# Altium schematic symbol library Trap_PCB_V3.3.SCHLIB: 18 symbols
Pins are listed as number, name and electrical type; pins without a type are passive.

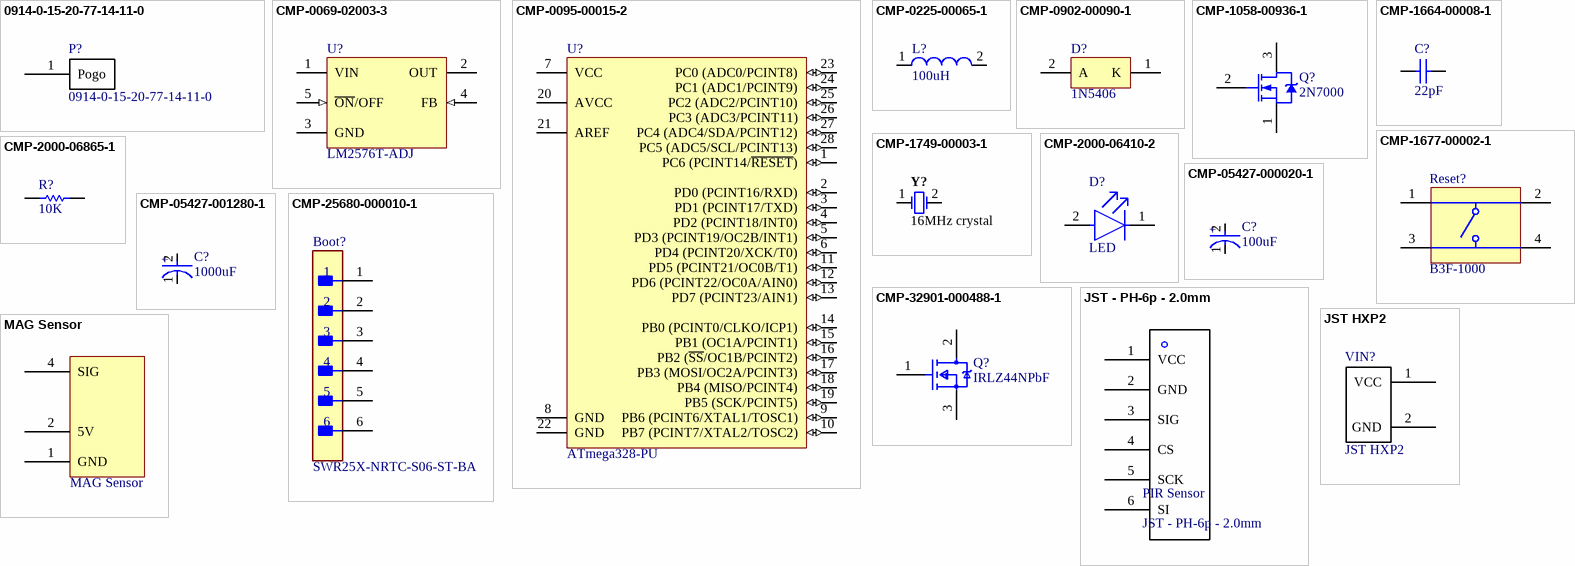
[diagram p0: symbols 0914-0-15-20-77-14-11-0 to MAG Sensor]

## 0914-0-15-20-77-14-11-0
designator P?
CONTACT SPRING LOADED T/H GOLD
footprint 0914-0-15-20-77-14-11-0 (Footprint not found)
pins: 1 Pogo

## CMP-0069-02003-3
designator U?, comment LM2576T-ADJ
SIMPLE SWITCHER® 3A Step-Down Voltage Regulator, 5-pin TO-220; Manufacturer: Texas Instruments; Manufacturer: TI National Semiconductor; Manufacturer Part Number: LM2576TADJ; PowerWise: N; PackageTopMarking: NSUZXYTTE#*LM2576T*-ADJ P+; PinCount: 5; RoHS: N; CompType: Switcher; Code_JEDEC: TO-220-AB; ComponentLink1URL: http://www.ti.com/general/docs/lit/getliterature.tsp?genericPartNumber=LM2576&fileType=pdf; PackageDescription: TO-220, Molded, 5 Lead, Straight; ComponentLink1Description: Datasheet URL; PackageReference: KC0005A
footprint KC0005A (FM, 5-Leads, Body 10.16x8.46mm, Pitch 1.7mm)
pins: 1 VIN (power), 2 OUT (power), 3 GND (power), 4 FB (in), 5 ~{ON}/OFF (in)

## CMP-0095-00015-2
designator U?, comment ATmega328-PU
8-bit AVR Microcontroller, 32KB Flash, 1KB EEPROM, 2KB SRAM, 28-pin PDIP, Industrial Grade (-40°C to 85°C); Manufacturer: Microchip; ComponentLink3Description: ATmega48A/48PA/88A/88PA/168A/168PA/328/328P Summary; RevisionNote: DatasheetVersion updated. URLs added.; DatasheetVersion: revD, May-2011; ComponentLink1URL: http://www.atmel.com/; PackageVersion: revB, Sep-2001; PackageDescription: 28-lead (0.300"/7.62mm Wide) Plastic Dual Inline Package (PDIP); PackageReference: 28P3; ComponentLink1Description: Manufacturer URL; ComponentLink2Description: ATmega48A/48PA/88A/88PA/168A/168PA/328/328P Datasheet; ComponentLink3URL: http://www.atmel.com/dyn/resources/prod_documents/8271S.pdf; ComponentLink2URL: http://www.atmel.com/dyn/resources/prod_documents/8271.pdf; Manufacturer Part Number: ATMEGA328-PU
footprint 28P3 (DIP, 28-Leads, Row Spacing 7.62mm, Pitch 2.54mm, Body 34.67x7.3mm)
pins: 1 PC6 (PCINT14/~{RESET}) (io), 2 PD0 (PCINT16/RXD) (io), 3 PD1 (PCINT17/TXD) (io), 4 PD2 (PCINT18/INT0) (io), 5 PD3 (PCINT19/OC2B/INT1) (io), 6 PD4 (PCINT20/XCK/T0) (io), 7 VCC (power), 8 GND (power), 9 PB6 (PCINT6/XTAL1/TOSC1) (io), 10 PB7 (PCINT7/XTAL2/TOSC2) (io), 11 PD5 (PCINT21/OC0B/T1) (io), 12 PD6 (PCINT22/OC0A/AIN0) (io), 13 PD7 (PCINT23/AIN1) (io), 14 PB0 (PCINT0/CLKO/ICP1) (io), 15 PB1 (OC1A/PCINT1) (io), 16 PB2 (~{SS}/OC1B/PCINT2) (io), 17 PB3 (MOSI/OC2A/PCINT3) (io), 18 PB4 (MISO/PCINT4) (io), 19 PB5 (SCK/PCINT5) (io), 20 AVCC (power), 21 AREF (power), 22 GND (power), 23 PC0 (ADC0/PCINT8) (io), 24 PC1 (ADC1/PCINT9) (io), 25 PC2 (ADC2/PCINT10) (io), 26 PC3 (ADC3/PCINT11) (io), 27 PC4 (ADC4/SDA/PCINT12) (io), 28 PC5 (ADC5/SCL/PCINT13) (io)

## CMP-0225-00065-1
designator L?, comment 100uH
Radial Leaded Wire Wound Inductor WE-TI, L = 100 µH; Manufacturer: Wurth Electronics; Manufacturer Part Number: 744743101; Inductance: 100 ÂµH; ComponentLink2URL: http://www.we-online.de/katalog/media/pdf/744743101.pdf; ComponentLink2Description: Datasheet; PackageReference: WE-TI-LB; ComponentLink1Description: Manufacturer Link; PackageDescription: THT Inductor, 2-Leads, Body 8.0 x 8.0 mm; PackageVersion: 2004; ComponentLink1URL: http://www.we-online.com; DatasheetVersion: ver 3, Nov-2004
footprint WE-TI-LB (THT Inductor, 2-Leads, Body 8.0x8.0x12.5 mm)
pins: 1, 2

## CMP-0902-00090-1
designator D?, comment 1N5406
Standard Recovery Rectifier, 2-Pin Axial_Lead, Pb-Free, Bulk Box; Manufacturer: On Semiconductor; Manufacturer: ON Semiconductor / Fairchild; IFSM Max (A): 200; IO(rec) Max (A): 3; VRRM Max (V): 600; PackageDescription: 2-Pin, Axial Lead, Diameter 5.05 mm; ComponentLink1Description: Manufacturer URL; ComponentLink3URL: http://www.onsemi.com/pub_link/Collateral/267-05.PDF; ComponentLink1URL: http://www.onsemi.com/; Mounting Technology: Through Hole; Type: Standard Recovery; DatasheetVersion: Rev. 10; ComponentLink3Description: Package Specification; Packing: Bulk Box; PackageReference: AXIAL_LEAD-2-267-05; PartNumber: 1N5406; ComponentLink2URL: http://www.onsemi.com/pub_link/Collateral/1N5400-D.PDF; PackageVersion: Rev. G, 06/2000; RoHS: TRUE; ComponentLink2Description: Datasheet; Manufacturer Part Number: 1N5406
footprint ONSC-AXIAL_LEAD-2-267-05_V (AXIAL, 2-Leads, Diameter 5.05mm)
pins: 1 K, 2 A

## CMP-1058-00936-1
designator Q?, comment 2N7000
Small Signal MOSFET, 200 mA, 60 V, N-Channel, 3-Pin TO-92, Bulk Box; Manufacturer: On Semiconductor; Manufacturer: ON Semiconductor / Fairchild; Ciss Typ (pF): 60; VGS(th) Max (V): 3; Crss Typ (pF): 5; Channel Polarity: N Channel; VGS Max (V): 20; Configuration: Single; PD Max (W): 0.35; Coss Typ (pF): 25; ID Max (A): 0.2; PackageVersion: Rev. AM; ComponentLink3URL: http://www.onsemi.cn/pub_link/Collateral/2N6426-D.PDF; ComponentLink2URL: http://www.onsemi.com/pub_link/Collateral/2N7000-D.PDF; DatasheetVersion: Rev. 8; Mounting Technology: Through Hole; V(BR)DSS Min (V): 60; PartNumber: 2N7000; PackageDescription: 3-Pin Transistor Outline, Body 4.825 x 3.685 mm, Pitch 1.27 mm; ComponentLink2Description: Datasheet; ComponentLink1URL: http://www.onsemi.com/; PackageReference: TO-92-3-29-11_AM_SL; Packing: Bulk Box; ComponentLink1Description: Manufacturer URL; Package Type: TO-92; ComponentLink3Description: Package Specification; Manufacturer Part Number: 2N7000
footprint ONSC-TO-92-3-29-11 (TO, 3-Leads, Body Dia 4.7mm, Pitch 1.27mm)
pins: 1 S, 2 G, 3 D

## CMP-1664-00008-1
designator C?, comment 22pF
Capacitor, Ceramic, 22 pF, +/-10 %, 100 V, -55 to 125 degC, 2-Pin THD, RoHS, Bulk; Manufacturer: KEMET; Manufacturer Part Number: C315C220K1G5TA; Max Input Voltage: 40 V; Min Input Voltage: 4.2 V; Output Current: 1.5 A; Output Voltage: 1.2 V; Outputs: 1; Case\Package: TO-220; RoHSCompliant: true; Min Operating Temperature: 0 degC; Max Operating Temperature: 125 degC; Package Quantity: 50; ComponentLink2URL: http://capacitoredge.kemet.com/capedge2/DataSheet/Datasheet-C315C220K1G5TA.pdf?pn=C315C220K1G5TA{BULK}; Radiation Hardening: No; Pins: 3; Length: 10.28 mm; ComponentLink1URL: http://www.kemet.com/; ComponentLink2Description: Datasheet; Height: 9.28 mm; REACH SVHC: No SVHC; ComponentLink1Description: Manufacturer URL; Max Ouput Current: 1.5 A; Weight: 0.08113 oz; Packaging: Rail/Tube; DatasheetVersion: Aug-16; Mount: Through Hole; PackageReference: C315-THT-2; Width: 4.82 mm; PackageDescription: 2-Pin Through Hole Device, Body 3.81 x 2.54 mm
footprint KEMT-C315-THT-2 (THD, 2-Leads, Body 3.81x2.54mm)
pins: 1, 2

## CMP-1677-00002-1
designator Reset?, comment B3F-1000
Tactile Switch, SPST-NO, 0.05 A, 5 to 24 V, -25 to 70 degC, 4-Pin THD, RoHS, Bulk; Manufacturer: Omron; Shielding: Shielded; Gender: Female; Capacitance: -45 f; Voltage Rating: 150 V; Current Rating: 1.5 A; Radiation Hardening: No; Contact Plating: Gold; Height: 14.99 mm; Min Operating Temperature: -40 degC; Packaging: Tray; ComponentLink2Description: Datasheet; ComponentLink1URL: http://www.omron.com/; Lead Pitch: 1.27 mm; RoHSCompliant: true; Pins: 8; PackageReference: B3F-1000; Width: 25.4 mm; Contact Material: Brass; ComponentLink2URL: http://www.omron.com/ecb/products/pdf/en-b3f.pdf; PackageDescription: 4-Pin Through Hole Device, Body 6 x 6 mm; DatasheetVersion: Jan-15; ComponentLink1Description: Manufacturer URL; Package Quantity: 1080; Mount: Through Hole; Length: 18.34 mm; Max Operating Temperature: 70 degC; Manufacturer Part Number: B3F-1000
footprint OMRON-B3F-1000-4_V (TH, 4-Leads, Body 6x6mm)
pins: 1, 2, 3, 4

## CMP-1749-00003-1
designator Y?, comment 16MHz crystal
Resistance Weld Thru-Hole Crystal, 16 MHz, -20 to 70 degC, 2-Pin THD, RoHS, Bulk; Manufacturer: Fox Electronics; Manufacturer Part Number: FOXSLF/160-20; Voltage Rating: 250 V; Tolerance: 1%; Resistance: 221 kohm; Case\Package: Axial; Power Rating: 250 mW; RoHSCompliant: true; Package Quantity: 200; Packaging: Bulk; Min Operating Temperature: -55 degC; DatasheetVersion: Mar-15; ComponentLink1URL: http://www.foxonline.com/; Max Operating Temperature: 155 degC; PackageReference: FOXSLF160-20; Mount: Through Hole; PackageDescription: 2-Pin Through Hole Device, Body 11.35 x 4.65 mm; ComponentLink1Description: Manufacturer URL; ComponentLink2URL: http://www.foxonline.com/pdfs/hc49slf.pdf; ComponentLink2Description: Datasheet; Length: 0.248 inch
footprint FOX-FOXSLF160-20 (THD, 2-Leads, Body 11.35x4.65mm)
pins: 1, 2

## CMP-2000-06410-2
designator D?, comment LED
LED YELLOW DIFFUSED T-1 T/H; Manufacturer: Broadcom; Manufacturer: Broadcom Avago; Wavelength: 585nm; Led Orientation: Straight; Luminous Intensity: 2.1mcd; Forward Voltage: 1.8V; Viewing Angle: 50°; Reverse Voltage: 5V; Power Dissipation: 17.5mW; Forward Current: 2mA; Lead Free: Yes; Automotive: No; Device Class L1: Optoelectronics; Mouser Description: Standard LEDs - Through Hole Yellow Diffused 585nm 2.1mcd; Digikey Description: LED YELLOW DIFFUSED T-1 T/H; Temperature: -40°C to +100°C; Temperature Range High: +100°C; Package: 0; Category: Diode; Colour: Yellow; Device Class L2: LEDs; ComponentLink2Description: Datasheet; ComponentLink2URL: https://docs.broadcom.com/docs/AV02-1557EN; Temperature Range Low: -40°C; Device Class L3: unset; Octopart: https://octopart.com/hlmp-1719-broadcom-71130405; RoHS: TRUE; Manufacturer Part Number: HLMP-1719
footprint FP-HLMP-1719-MFG
pins: 1 C, 2 A

## CMP-2000-06865-1
designator R?, comment 10K
Little Demon(R) Carbon Composition Molded OD Series, 250 V, 10 KOhm, +/-5%, -70 to 130 degC, 2-Pin THD, RoHS, Bulk; PartNumber: OD103JE; Manufacturer: Ohmite; Power Rating: 0.25W; Power (Watts): 0.25W,1/4W; Tolerance: ±5%; Online Catalog: OD,OF,OASeries,LittleDemon®; Catalog Drawings: OD,OF,OASeries; EDA / CAD Models: DownloadfromAcceleratedDesigns; Mounting Technology: ThroughHole; Datasheet Version: 06/2016; RoHS Information: LittleDemon"E"SeriesMaterialDeclaration; Number of Terminations: 2; Temperature Coefficient: -; Height: -; Resistance (Ohms): 10k; Composition: CarbonComposition; Package Description: 2-Pin THD Resistor, Body 7 x 2.5 mm, Lead Dia. 0.6 mm; Size / Dimension: 0.098"Diax0.276"L(2.50mmx7.00mm); Category: Resistors; Manufacturer URL: http://www.ohmite.com/; Features: PulseWithstanding; Family: ThroughHoleResistors; Supplier Device Package: Axial; Package / Case: Axial; Standard Package: 100; Package Reference: RES7X2.5; Operating Temperature: -; Series: LittleDemon®OD; Datasheet URL: http://www.ohmite.com/cat/res_od_of_oa.pdf; Packaging: Bulk; Manufacturer Part Number: OD103JE
footprint OMTE-RES7X2.5-2 (Resistor, Axial; Body 7x2.5mm, Lead Dia. 0.6mm)
pins: 1, 2

## CMP-05427-000020-1
designator C?, comment 100uF
CAP ALUM 100UF 20% 50V RADIAL; Manufacturer: Panasonic; Manufacturer Part Number: EEU-FR1H101B; Life (Hours): 6000Hour; Ripple Current: 870mA; Lead Diameter: 0.6mm; Impedance: 61mR; Tolerance: 20%; Mount: Through Hole; Lead Free: Lead Free; Length: 11.5mm; Height - Seated (Max): 0.512inch; Contact Plating: Tin; Termination: Radial; Series: FR; Max Operating Temperature: 105°C; Features: General Purpose; Min Operating Temperature: -40°C; RoHS Compliant: Yes; Height: 11.5mm; Voltage Rating (DC): 50V; Diameter: 8mm; Capacitance: 100uF; Lead Pitch: 5mm; Radiation Hardening: No; Package Quantity: 1; Case/Package: Radial; Voltage Rating: 50V; Packaging: Tape and Reel; ESR (Equivalent Series Resistance): 61mR; REACH SVHC: No SVHC
footprint FP-EEU-FR1H101B-MFG
pins: 1 C, 2 A
text: +

## CMP-05427-001280-1
designator C?, comment 1000uF
Aluminum Electrolytic Capacitors (Radial Lead Type) AEC-Q200 Qualified 1000uF ±20% 6.3V; Manufacturer: Panasonic; Manufacturer Part Number: EEU-FC0J102; Ripple Current (AC): 755mA; Life (Hours): 3000Hour; Impedance: 90mR; Dielectric Material: Aluminium; Polarity: Polar; Leakage Current: 3uA; Capacitance: 1mF; Lead Diameter: 0.6mm; Voltage: 6.3V; Size: 12.5mm; Package Quantity: 200; Height - Seated (Max): 0.492inch; Ratings: AEC-Q200; Voltage Rating (DC): 6.3V; Lead Free: Lead Free; Min Operating Temperature: -55°C; Series: FC; Ripple Current: 755mA; Packaging: Bulk; Height: 12.5mm; Voltage Rating: 6.3V; Termination: Radial; Mount: Through Hole; Lead Pitch: 5mm; REACH SVHC: No SVHC; ESR (Equivalent Series Resistance): 90mR; RoHS Compliant: Yes; Contact Plating: Tin; Number of Pins: 2; Tolerance: 20%; Case/Package: Radial; Length: 12.5mm; Diameter: 10mm; Construction: RADIAL; Radiation Hardening: No; Max Operating Temperature: 105°C
footprint FP-RAD-TH-D_10_0_5-L_12_5-MFG
pins: 1 C, 2 A
text: +

## CMP-25680-000010-1
designator Boot?, comment SWR25X-NRTC-S06-ST-BA
CONN HEADER VERT 6POS 2.54MM; Manufacturer: Sullins; Conn Orientation: Straight; Current Rating: 3A; Number Of Contacts: 6; Voltage Rating: 250V; Conn Gender: Male; Temperature Range High: +85°C; Number Of Rows: 1; ComponentLink2URL: https://drawings-pdf.s3.amazonaws.com/11633.pdf; Octopart: https://octopart.com/swr25x-nrtc-s06-st-ba-sullins-20912730; RoHS: TRUE; Lead Free: Yes; Digikey Description: CONN HEADER VERT 6POS 2.54MM; Temperature: -25°C to +85°C; ComponentLink2Description: Datasheet; Category: Conn; Device Class L1: Connectors; Package: SWR25X-NRTC-S06-ST-BA; Pitch: 2.54mm; Manufacturer Part Number: SWR25X-NRTC-S06-ST-BA; Device Class L3: unset; Automotive: No; Device Class L2: Headers and Wire Housings; Temperature Range Low: -25°C; Contact Material: Tin,Nickel; Height: 11.7mm
footprint FP-SWR25X-NRTC-S06-ST-BA-MFG
pins: 1, 2, 3, 4, 5, 6

## CMP-32901-000488-1
designator Q?, comment IRLZ44NPbF
MOSFET N-CH 55V 47A TO220AB; Manufacturer: Infineon; Turn-On Delay Time: 11ns; Gate to Source Voltage (Vgs): 16V; Element Configuration: Single; Rds On Max: 22mR; Turn-Off Delay Time: 26ns; Max Power Dissipation: 110W; Threshold Voltage: 2V; Drain to Source Resistance: 35mR; Input Capacitance: 1.7nF; Continuous Drain Current (ID): 47A; Case/Package: TO-220; Lead Free: Lead Free; Halogen Free: Halogen Free; Packaging: Rail/Tube; Length: 0.414inch; Min Operating Temperature: -55°C; REACH SVHC: No SVHC; Number of Pins: 3; Width: 0.185inch; Drain to Source Voltage (Vdss): 55V; Power Dissipation: 110W; RoHS Compliant: Yes; Max Operating Temperature: 175°C; Height: 0.6inch; Max Dual Supply Voltage: 55V; Drain to Source Breakdown Voltage: 55V; Mount: Through Hole; Manufacturer Part Number: IRLZ44NPBF
footprint FP-PG-TO220-3-MFG
pins: 1 G, 2 D, 3 S

## JST - PH-6p - 2.0mm
designator PIR Sensor
footprint PIR
pins: 1 VCC, 2 GND, 3 SIG, 4 CS, 5 SCK, 6 SI

## JST HXP2
designator VIN?
footprint JST_XHP2_ThroughHole
pins: 1 VCC, 2 GND

## MAG Sensor
designator *?
footprint MAG
pins: 1 GND, 2 5V, 4 SIG